# Altium integrated library STC3105IQT.IntLib: 1 symbol
Pins are listed as number, name and electrical type; pins without a type are passive.

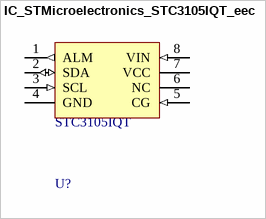
[diagram p0: symbol IC_STMicroelectronics_STC3105IQT_eec]

## IC_STMicroelectronics_STC3105IQT_eec
designator U?  Part Number: STC3105IQT
IC Battery Battery Monitor IC 8-TDFN (3x2); Manufacturer: STMicroelectronics; Voltage: 2.7V~5.5V; helpURL: https://upverter.com/upn/revision/8494118aa069985d/; ComponentLink2Description: Datasheet; Temperature: -40°C to +85°C; Package: TDFN8; Supplier 2: Mouser; Price: 1.15591491198; Supplier 1: Digi-Key; ComponentLink1URL: https://upverter.com/upn/revision/8494118aa069985d/; Supplier Part Number 2: 511-STC3105IQT; Supplier Part Number 1: 497-12092-1-ND; ComponentLink1Description: Upverter; ComponentLink2URL: https://upverter.com/datasheet/b682a1d550b556c65fc34921f7bde641791c228d.pdf; RoHS: TRUE; Mouser Part Number: 511-STC3105IQT; Ipc Land Pattern Name: DFN300X200X75-8; Temperature Range High: +85°C; Digikey Description: IC Battery Battery Monitor IC 8-TDFN (3x2); Digikey Part Number: 497-12092-1-ND; Lead Free: yes; Temperature Range Low: -40°C
footprint STMicroelectronics_STC3105IQT_0
pins: 1 ALM (out), 2 SDA (io), 3 SCL (in), 4 GND (power), 5 CG (in), 6 NC, 7 VCC (power), 8 VIN (in)